# EAGLE library part TC2030-MCP-NL (library SamacSys_Parts)
TC2030-MCP-NL PCB Footprint (no legs) Source: Datasheet <http://ww1.microchip.com/downloads/en/DeviceDoc/TC2030-MCP-NL_PCB_Footprint_RevD.pdf>
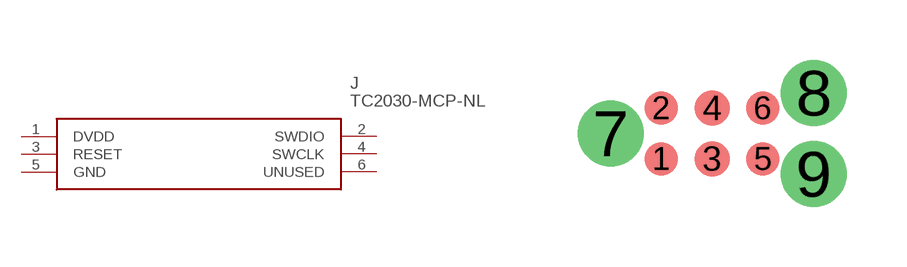
[diagram p0: symbol with the pads of TC2030-MCP-NL; footprint TC2030-MCP-NL]

Designator prefix J

## TC2030-MCP-NL (DESCRIPTION: TC2030-MCP-NL PCB Footprint (no legs); HEIGHT: mm; MANUFACTURER_NAME: Microchip; MANUFACTURER_PART_NUMBER: TC2030-MCP-NL; MOUSER_PART_NUMBER: 579-TC2030-MCP-NL; MOUSER_PRICE-STOCK: https://www.mouser.com/Search/Refine.aspx?Keyword=579-TC2030-MCP-NL; RS_PART_NUMBER: 8252561; RS_PRICE-STOCK: http://uk.rs-online.com/web/p/products/8252561)  [TC2030-MCP-NL]
1  DVDD
2  SWDIO
3  RESET
4  SWCLK
5  GND
6  UNUSED

## Footprint TC2030-MCP-NL (pad centres in mm)
TC2030-MCP-NL
smd 0.838 x 0.838: 1 -1.27,-0.635; 2 -1.27,0.635; 5 1.27,-0.635; 6 1.27,0.635
smd 0.889 x 0.889: 3 0,-0.635; 4 0,0.635
drill 1.1 pad 1.2: 7 -2.54,0; 8 2.54,1.016; 9 2.54,-1.016